# Altium schematic symbol library Mechanical.SchLib: 2 symbols
Pins are listed as number, name and electrical type; pins without a type are passive.

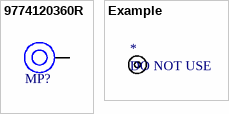
[diagram p0: symbols 9774120360R to Example]

## 9774120360R
designator MP?, comment M3 x 12mm  (value not drawn)
WA-SMSI SMT Steel Spacer with internal Thread, OD 6mm, M3 x 12mm; Manufacturer Part Number: 9774120360R; Manufacturer: Wurth Elektronik; Inside Diameter: 4.2mm; Surface: Tin; ComponentLink1Description: Website Link; ComponentLink1URL: https://www.we-online.com/redexpert/article/9774120360R?ad; ComponentLink2Description: Datasheet Link; ComponentLink2URL: https://www.we-online.com/redexpert/spec/9774120360R?ad; Category: SMT Spacers; Match Code: WA-SMSI; Mount: Surface Mount; Operating Temperature Max: 150°C; Operating Temperature Min: -55°C; Packaging: Tape and Reel; Height: 12mm; Material: Steel; Outside Diameter: 6mm; Thread Size: M3
footprint 9774120360
pins: 1

## Example
designator *, comment DO NOT USE